# Altium schematic symbol library SH_1.0_4.SchLib: 1 symbol
Pins are listed as number, name and electrical type; pins without a type are passive.

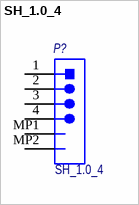
[diagram p0: symbol SH_1.0_4]

## SH_1.0_4
designator P?
JST SH1.0, 1.0 mm pitch/Disconnactable crimp style connectors; Потребление, Вт: 0.0; Назначение: JST SH1.0, 1.0 mm pitch/Disconnactable crimp style connectors; ComponentLink1Description: DataSheet; ComponentLink1URL: https://www.jst-mfg.com/product/pdf/eng/eSH.pdf; Наименование: SH_1.0_4
footprint SH_1.0_6
pins: 1, 2, 3, 4, MP1, MP2